# Altium footprint library CAPAE430X610D540L170X65N.PcbLib: 1 footprints
Each footprint in its own frame and in the unit in brackets; x right, y up, seen from the top. Pads: shape width x height; smd on the part's side, far side on the other; paste and mask are expansions set on the pad; w line width, h text height; cw(c..) or ccw(c..) is an arc to the next point about the centre after c.
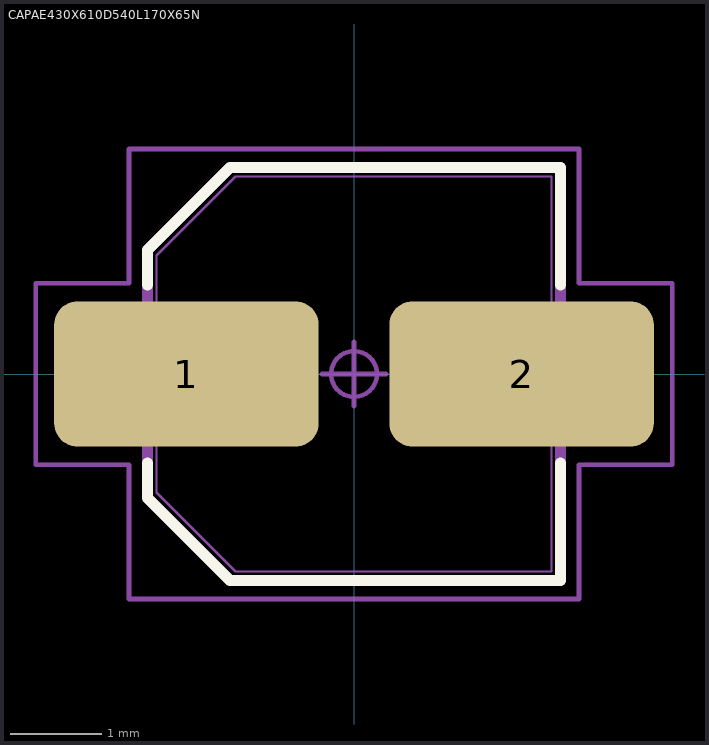
[diagram p0: the footprint, top view; thin cyan lines are the x and y axes]

## CAPAE430X610D540L170X65N [mm] "Capacitor, Aluminum Electrolytic; 4.30 mm L X 4.30 mm W X 6.10 mm H body"
height 6.1
pads (2):
  rrect32% 2.88x1.58 smd: 1(-1.825,0) 2(1.825,0)
Top Overlay:
  lines w0.12: -2.25,-0.97 -2.25,-1.35 -1.35,-2.25 2.25,-2.25 2.25,-0.97 ; -2.25,0.97 -2.25,1.35 -1.35,2.25 2.25,2.25 2.25,0.97
Mechanical 3:
  lines w0.12: -2.25,-1.35 -1.35,-2.25 2.25,-2.25 2.25,2.25 -1.35,2.25 -2.25,1.35 -2.25,-1.35
Mechanical 5:
  lines w0.025: -2.7,-0.325 -1,-0.325 -1,0.325 -2.7,0.325 -2.7,-0.325 ; -2.15,-1.29 -1.29,-2.15 2.15,-2.15 2.15,2.15 -1.29,2.15 -2.15,1.29 -2.15,-1.29 ; 1,-0.325 1,0.325 2.7,0.325 2.7,-0.325 1,-0.325
Mechanical 7:
  circle w0.05: c0,0 r0.25
  lines w0.05: -0.35,0 0.35,0 ; 0,-0.35 0,0.35 ; -3.465,-0.99 -3.465,0.99 -2.45,0.99 -2.45,2.45 2.45,2.45 2.45,0.99 3.465,0.99 3.465,-0.99 2.45,-0.99 2.45,-2.45 -2.45,-2.45 -2.45,-0.99 -3.465,-0.99
Mechanical 9:
  text "'.Designator'" at -5.13,-1.179 h1
3D body "CAPAE430X610D540L170X65.STEP": height 6.1, standoff 0, extent -2.15,-2.15 2.15,2.15
3D body: height 1, standoff 0, extent -3.475,-2.45 3.475,2.45
3D body: height 1.04, standoff 0, extent -3.465,-2.45 3.465,2.45